# Altium footprint library nixie_kok.PcbLib: 31 footprints (part 2 of 2)
Each footprint in its own frame and in the unit in brackets; x right, y up, seen from the top. Pads: shape width x height; smd on the part's side, far side on the other; paste and mask are expansions set on the pad; w line width, h text height; cw(c..) or ccw(c..) is an arc to the next point about the centre after c.
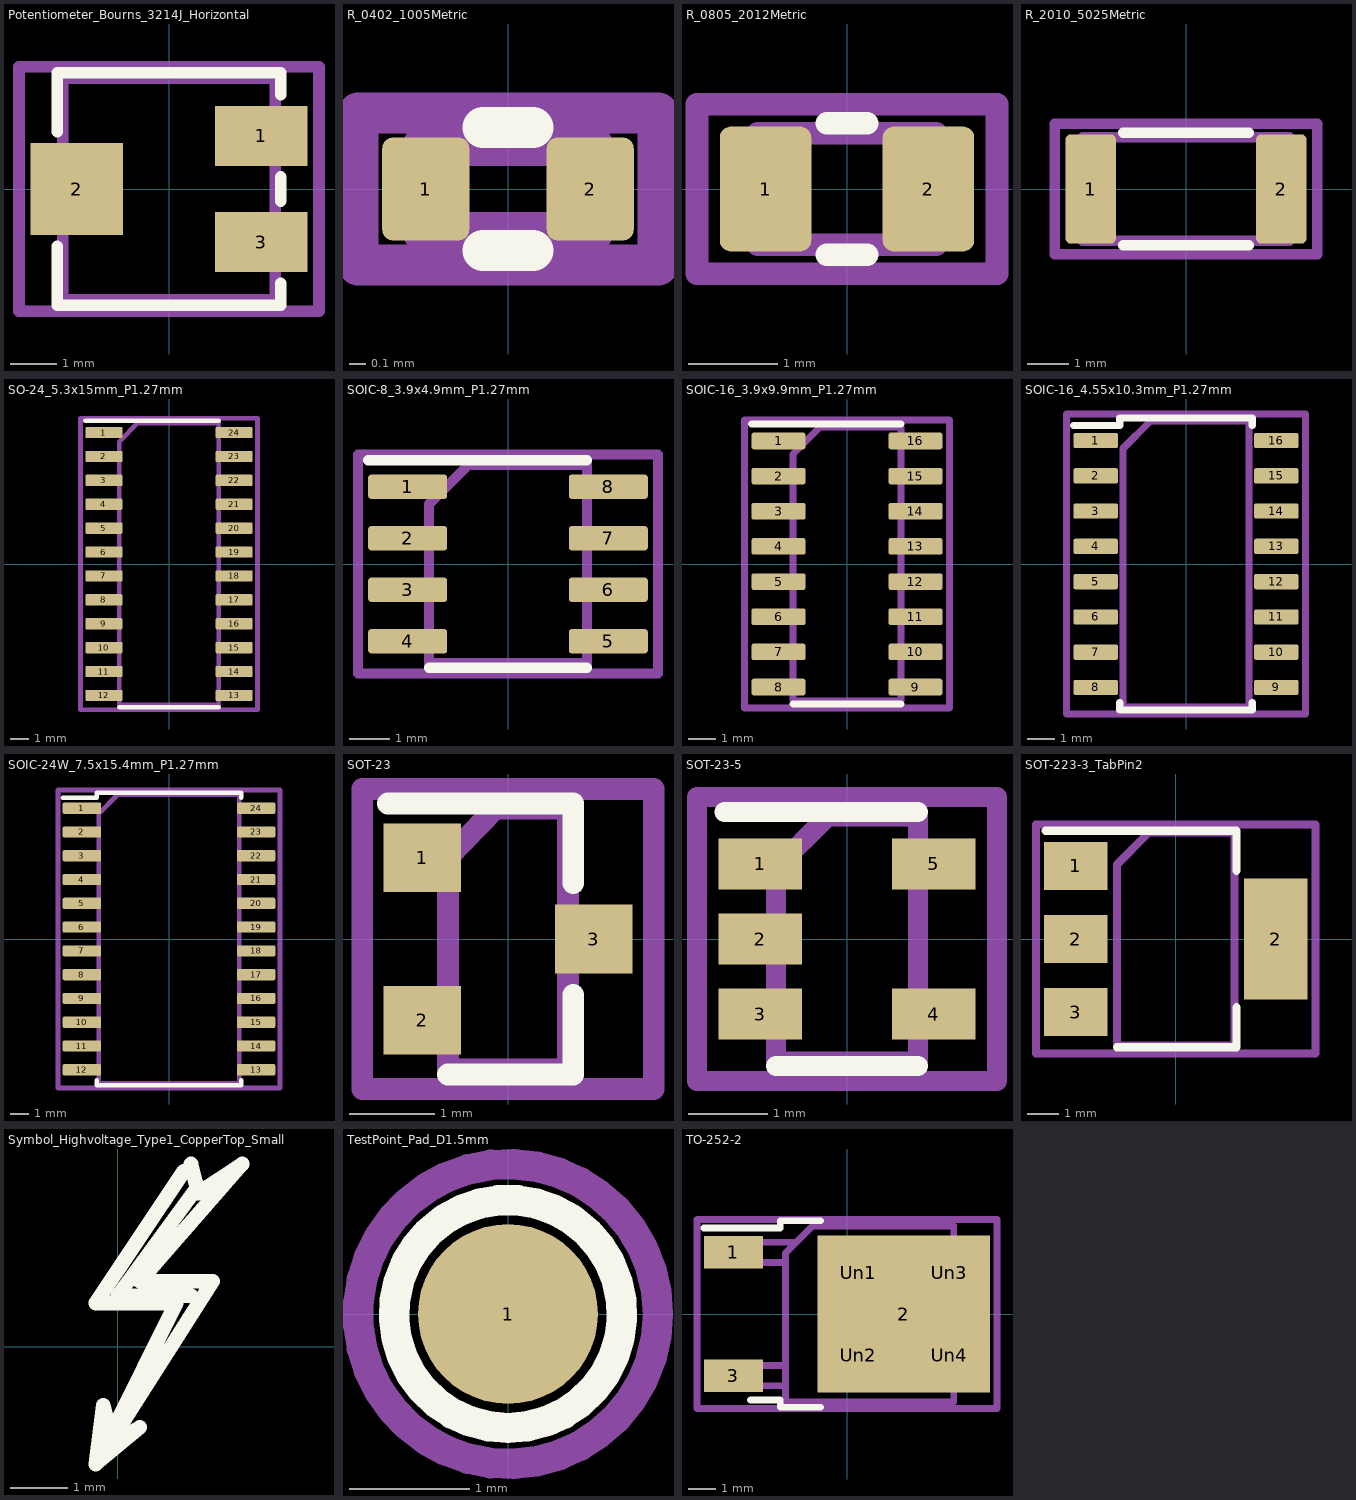
[diagram p1: the footprints below, top view; thin cyan lines are the x and y axes]

## Potentiometer_Bourns_3214J_Horizontal [mm]
pads (3):
  rect 2x1.3 smd: 1(2,1.15) 3(2,-1.15)
  rect 2x2 smd: 2(-2,0)
F.SilkS:
  lines w0.254: -2.42,-1.24 -2.42,-2.52 2.42,-2.52 2.42,-2.04 ; 2.42,-0.26 2.42,0.26 ; 2.42,2.04 2.42,2.52 -2.42,2.52 -2.42,1.24 ; -2.42,1.24 -2.42,2.14 -2.42,1.24
F.CrtYd:
  lines w0.254: -3.25,-2.65 3.25,-2.65 3.25,2.65 -3.25,2.65 -3.25,-2.65
F.Fab:
  lines w0.254: -2.3,-2.4 2.3,-2.4 2.3,2.4 -2.3,2.4 -2.3,-2.4 ; -2.3,0.24 -2.3,2.02 -2.3,0.24
  text "'.Designator'" at -1.439,-0.398 h1

## R_0402_1005Metric [mm]
pads (2):
  rrect25% 0.54x0.64 smd: 1(-0.51,0) 2(0.51,0)
F.SilkS:
  lines w0.254: -0.154,-0.38 0.154,-0.38 ; -0.154,0.38 0.154,0.38
F.CrtYd:
  lines w0.254: -0.93,-0.47 -0.93,0.47 0.93,0.47 0.93,-0.47 -0.93,-0.47
F.Fab:
  lines w0.254: -0.525,-0.27 -0.525,0.27 0.525,0.27 0.525,-0.27 -0.525,-0.27
  text "'.Designator'" at -0.374,-0.104 h0.26

## R_0805_2012Metric [mm]
pads (2):
  rrect24% 1.025x1.4 smd: 1(-0.913,0) 2(0.913,0)
F.SilkS:
  lines w0.254: -0.227,-0.735 0.227,-0.735 ; -0.227,0.735 0.227,0.735
F.CrtYd:
  lines w0.254: -1.68,-0.95 1.68,-0.95 1.68,0.95 -1.68,0.95 -1.68,-0.95
F.Fab:
  lines w0.254: -1,-0.625 1,-0.625 1,0.625 -1,0.625 -1,-0.625
  text "'.Designator'" at 0.719,0.199 h0.5

## R_2010_5025Metric [mm]
pads (2):
  rrect20% 1.225x2.65 smd: 1(-2.312,0) 2(2.312,0)
F.SilkS:
  lines w0.254: -1.527,-1.36 1.527,-1.36 ; -1.527,1.36 1.527,1.36
F.CrtYd:
  lines w0.254: -3.18,-1.58 -3.18,1.58 3.18,1.58 3.18,-1.58 -3.18,-1.58
F.Fab:
  lines w0.254: -2.5,-1.25 -2.5,1.25 2.5,1.25 2.5,-1.25 -2.5,-1.25
  text "'.Designator'" at 1.439,0.398 h1

## SO-24_5.3x15mm_P1.27mm [mm]
pads (24):
  rrect25% 1.975x0.6 smd: 1(-3.463,6.985) 2(-3.463,5.715) 3(-3.463,4.445) 4(-3.463,3.175) 5(-3.463,1.905) 6(-3.463,0.635) 7(-3.463,-0.635) 8(-3.463,-1.905) 9(-3.463,-3.175) 10(-3.463,-4.445) 11(-3.463,-5.715) 12(-3.463,-6.985) 13(3.463,-6.985) 14(3.463,-5.715) 15(3.463,-4.445) 16(3.463,-3.175) 17(3.463,-1.905) 18(3.463,-0.635) 19(3.463,0.635) 20(3.463,1.905) 21(3.463,3.175) 22(3.463,4.445) 23(3.463,5.715) 24(3.463,6.985)
F.SilkS:
  lines w0.254: -4.45,7.61 0,7.61 2.65,7.61 ; -2.65,-7.61 0,-7.61 2.65,-7.61
F.CrtYd:
  lines w0.254: -4.7,-7.75 4.7,-7.75 4.7,7.75 -4.7,7.75 -4.7,-7.75
F.Fab:
  lines w0.254: -2.65,-7.5 2.65,-7.5 2.65,7.5 -1.65,7.5 -2.65,6.5 -2.65,-7.5
  text "'.Designator'" at 1.439,0.398 h1

## SOIC-8_3.9x4.9mm_P1.27mm [mm]
pads (8):
  rrect25% 1.95x0.6 smd: 1(-2.475,1.905) 2(-2.475,0.635) 3(-2.475,-0.635) 4(-2.475,-1.905) 5(2.475,-1.905) 6(2.475,-0.635) 7(2.475,0.635) 8(2.475,1.905)
F.SilkS:
  lines w0.254: -3.45,2.56 0,2.56 1.95,2.56 ; -1.95,-2.56 0,-2.56 1.95,-2.56
F.CrtYd:
  lines w0.254: -3.7,-2.7 -3.7,2.7 3.7,2.7 3.7,-2.7 -3.7,-2.7
F.Fab:
  lines w0.254: -1.95,-2.45 -1.95,1.475 -0.975,2.45 1.95,2.45 1.95,-2.45 -1.95,-2.45
  text "'.Designator'" at -1.411,-0.391 h0.98

## SOIC-16_3.9x9.9mm_P1.27mm [mm]
pads (16):
  rrect25% 1.95x0.6 smd: 1(-2.475,4.445) 2(-2.475,3.175) 3(-2.475,1.905) 4(-2.475,0.635) 5(-2.475,-0.635) 6(-2.475,-1.905) 7(-2.475,-3.175) 8(-2.475,-4.445) 9(2.475,-4.445) 10(2.475,-3.175) 11(2.475,-1.905) 12(2.475,-0.635) 13(2.475,0.635) 14(2.475,1.905) 15(2.475,3.175) 16(2.475,4.445)
F.SilkS:
  lines w0.254: -3.45,5.06 0,5.06 1.95,5.06 ; -1.95,-5.06 0,-5.06 1.95,-5.06
F.CrtYd:
  lines w0.254: -3.7,-5.2 3.7,-5.2 3.7,5.2 -3.7,5.2 -3.7,-5.2
F.Fab:
  lines w0.254: -1.95,-4.95 1.95,-4.95 1.95,4.95 -0.975,4.95 -1.95,3.975 -1.95,-4.95
  text "'.Designator'" at -1.411,-0.391 h0.98

## SOIC-16_4.55x10.3mm_P1.27mm [mm]
pads (16):
  rrect25% 1.6x0.55 smd: 1(-3.25,4.445) 2(-3.25,3.175) 3(-3.25,1.905) 4(-3.25,0.635) 5(-3.25,-0.635) 6(-3.25,-1.905) 7(-3.25,-3.175) 8(-3.25,-4.445) 9(3.25,-4.445) 10(3.25,-3.175) 11(3.25,-1.905) 12(3.25,-0.635) 13(3.25,0.635) 14(3.25,1.905) 15(3.25,3.175) 16(3.25,4.445)
F.SilkS:
  lines w0.254: -4.05,4.98 -2.385,4.98 -2.385,5.26 0,5.26 2.385,5.26 2.385,4.98 ; -2.385,-4.98 -2.385,-5.26 0,-5.26 2.385,-5.26 2.385,-4.98
F.CrtYd:
  lines w0.254: -4.3,-5.4 -4.3,5.4 4.3,5.4 4.3,-5.4 -4.3,-5.4
F.Fab:
  lines w0.254: -2.275,-5.15 -2.275,4.15 -1.275,5.15 2.275,5.15 2.275,-5.15 -2.275,-5.15
  text "'.Designator'" at -1.439,-0.398 h1

## SOIC-24W_7.5x15.4mm_P1.27mm [mm]
pads (24):
  rrect25% 2.05x0.6 smd: 1(-4.65,6.985) 2(-4.65,5.715) 3(-4.65,4.445) 4(-4.65,3.175) 5(-4.65,1.905) 6(-4.65,0.635) 7(-4.65,-0.635) 8(-4.65,-1.905) 9(-4.65,-3.175) 10(-4.65,-4.445) 11(-4.65,-5.715) 12(-4.65,-6.985) 13(4.65,-6.985) 14(4.65,-5.715) 15(4.65,-4.445) 16(4.65,-3.175) 17(4.65,-1.905) 18(4.65,-0.635) 19(4.65,0.635) 20(4.65,1.905) 21(4.65,3.175) 22(4.65,4.445) 23(4.65,5.715) 24(4.65,6.985)
F.SilkS:
  lines w0.254: -5.675,7.545 -3.86,7.545 -3.86,7.81 0,7.81 3.86,7.81 3.86,7.545 ; -3.86,-7.545 -3.86,-7.81 0,-7.81 3.86,-7.81 3.86,-7.545
F.CrtYd:
  lines w0.254: -5.93,-7.95 -5.93,7.95 5.93,7.95 5.93,-7.95 -5.93,-7.95
F.Fab:
  lines w0.254: -3.75,-7.7 -3.75,6.7 -2.75,7.7 3.75,7.7 3.75,-7.7 -3.75,-7.7
  text "'.Designator'" at -1.439,-0.398 h1

## SOT-23 [mm]
pads (3):
  rect 0.9x0.8 smd: 1(-1,0.95) 2(-1,-0.95) 3(1,0)
F.SilkS:
  lines w0.254: -1.4,1.58 0.76,1.58 0.76,0.65 ; -0.7,-1.58 0.76,-1.58 0.76,-0.65
F.CrtYd:
  lines w0.254: -1.7,-1.75 -1.7,1.75 1.7,1.75 1.7,-1.75 -1.7,-1.75
F.Fab:
  lines w0.254: -0.7,-1.52 0.7,-1.52 0.7,1.52 -0.15,1.52 -0.7,0.95 -0.7,-1.5
  text "'.Designator'" at 0.199,-0.719 h0.5

## SOT-23-5 [mm]
pads (5):
  rect 1.06x0.65 smd: 1(-1.1,0.95) 2(-1.1,0) 3(-1.1,-0.95) 4(1.1,-0.95) 5(1.1,0.95)
F.SilkS:
  lines w0.254: -1.55,1.61 0.9,1.61 ; -0.9,-1.61 0.9,-1.61
F.CrtYd:
  lines w0.254: -1.9,-1.8 -1.9,1.8 1.9,1.8 1.9,-1.8 -1.9,-1.8
F.Fab:
  lines w0.254: -0.9,-1.55 -0.9,0.9 -0.25,1.55 0.9,1.55 0.9,-1.55 -0.9,-1.55
  text "'.Designator'" at -0.199,0.719 h0.5

## SOT-223-3_TabPin2 [mm]
pads (4):
  rect 2x1.5 smd: 1(-3.15,2.3) 2(-3.15,0) 3(-3.15,-2.3)
  rect 2x3.8 smd: 2(3.15,0)
F.SilkS:
  lines w0.254: -4.1,3.41 1.91,3.41 1.91,2.15 ; -1.85,-3.41 1.91,-3.41 1.91,-2.15
F.CrtYd:
  lines w0.254: -4.4,-3.6 -4.4,3.6 4.4,3.6 4.4,-3.6 -4.4,-3.6
F.Fab:
  lines w0.254: -1.85,-3.35 -1.85,2.35 -0.85,3.35 1.85,3.35 1.85,-3.35 -1.85,-3.35
  text "'.Designator'" at -0.319,1.15 h0.8

## Symbol_Highvoltage_Type1_CopperTop_Small [mm]
F.SilkS:
  lines w0.254: 1.143,3.048 -0.381,0.762 1.016,0.762 -0.127,-1.524 -0.254,-1.016 -0.381,-2.032 0.381,-1.397 -0.127,-1.651 1.651,1.143 0.381,1.143 2.159,3.175 1.397,2.667 1.27,3.175 ; 1.27,0.889 0,0.889 1.397,2.794

## TestPoint_Pad_D1.5mm [mm]
pads (1):
  round 1.5 smd: 1(0,0)
F.SilkS:
  circle w0.254: c0,0 r0.95
F.CrtYd:
  circle w0.254: c0,0 r1.25
F.Fab:
  text "'.Designator'" at -1.439,1.252 h1

## TO-252-2 [mm]
pads (7):
  rect 2.2x1.2 smd: 1(-4.2,2.28) 3(-4.2,-2.28)
  rect 6.4x5.8 smd: 2(2.1,0)
  rect 3.05x2.75 on Top Paste: Un1(0.425,1.525) Un2(0.425,-1.525) Un3(3.775,1.525) Un4(3.775,-1.525)
F.SilkS:
  lines w0.254: -5.3,3.18 -2.47,3.18 -2.47,3.45 -0.97,3.45 ; -3.57,-3.18 -2.47,-3.18 -2.47,-3.45 -0.97,-3.45
F.CrtYd:
  lines w0.254: -5.55,-3.5 -5.55,3.5 5.55,3.5 5.55,-3.5 -5.55,-3.5
F.Fab:
  lines w0.254: -2.27,-2.655 -4.97,-2.655 -4.97,-1.905 -2.27,-1.905 ; -2.27,1.905 -4.97,1.905 -4.97,2.655 -1.865,2.655 ; 3.95,-2.7 4.95,-2.7 4.95,2.7 3.95,2.7 ; -2.27,-3.25 -2.27,2.25 -1.27,3.25 3.95,3.25 3.95,-3.25 -2.27,-3.25
  text "'.Designator'" at -1.439,-0.398 h1